# Altium footprint library V_5.PcbLib: 4 footprints
Each footprint in its own frame and in the unit in brackets; x right, y up, seen from the top. Pads: shape width x height; smd on the part's side, far side on the other; paste and mask are expansions set on the pad; w line width, h text height; cw(c..) or ccw(c..) is an arc to the next point about the centre after c.
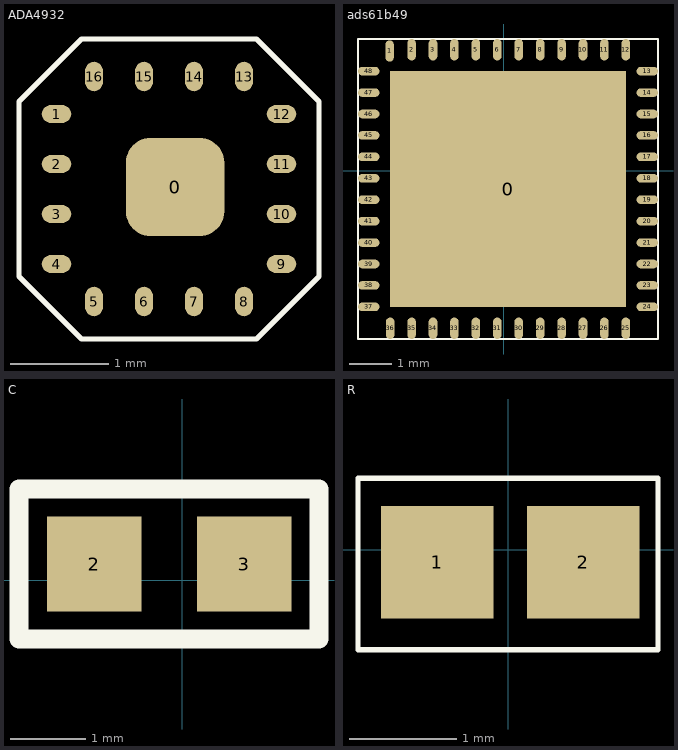
[diagram p0: the footprints below, top view; thin cyan lines are the x and y axes]

## ADA4932 [mm]
pads (17):
  rrect50% 1x1 smd: 0(-620.333,-831.957)
  oval 0.3x0.18 smd: 1(-621.538,-831.215) 2(-621.538,-831.723) 3(-621.538,-832.231) 4(-621.538,-832.739) 9(-619.252,-832.739) 10(-619.252,-832.231) 11(-619.252,-831.723) 12(-619.252,-831.215)
  oval 0.18x0.3 smd: 5(-621.157,-833.12) 6(-620.649,-833.12) 7(-620.141,-833.12) 8(-619.633,-833.12) 13(-619.633,-830.834) 14(-620.141,-830.834) 15(-620.649,-830.834) 16(-621.157,-830.834)
Top Overlay:
  lines w0.05: -621.919,-832.866 -621.919,-831.088 -621.284,-830.453 -619.506,-830.453 -618.871,-831.088 -618.871,-832.866 -619.506,-833.501 -621.284,-833.501 -621.919,-832.866

## ads61b49 [mm]
pads (49):
  rect 5.5x5.5 smd: 0(0.096,-0.427)
  oval 0.2x0.5 smd: 1(-2.667,2.794) 2(-2.154,2.823) 3(-1.654,2.823) 4(-1.154,2.823) 5(-0.654,2.823) 6(-0.154,2.823) 7(0.346,2.823) 8(0.846,2.823) 9(1.346,2.823) 10(1.846,2.823) 11(2.346,2.823) 12(2.846,2.823) 25(2.846,-3.677) 26(2.346,-3.677) 27(1.846,-3.677) 28(1.346,-3.677) 29(0.846,-3.677) 30(0.346,-3.677) 31(-0.154,-3.677) 32(-0.654,-3.677) 33(-1.154,-3.677) 34(-1.654,-3.677) 35(-2.154,-3.677) 36(-2.654,-3.677)
  oval 0.5x0.2 smd: 13(3.346,2.323) 14(3.346,1.823) 15(3.346,1.323) 16(3.346,0.823) 17(3.346,0.323) 18(3.346,-0.177) 19(3.346,-0.677) 20(3.346,-1.177) 21(3.346,-1.677) 22(3.346,-2.177) 23(3.346,-2.677) 24(3.346,-3.177) 37(-3.154,-3.177) 38(-3.154,-2.677) 39(-3.154,-2.177) 40(-3.154,-1.677) 41(-3.154,-1.177) 42(-3.154,-0.677) 43(-3.154,-0.177) 44(-3.154,0.323) 45(-3.154,0.823) 46(-3.154,1.323) 47(-3.154,1.823) 48(-3.154,2.323)
Top Overlay:
  lines w0.05: -3.404,-3.927 -3.404,3.073 3.596,3.073 3.596,-3.927 -3.404,-3.927

## C [mm]
pads (2):
  rect 1.26x1.27 smd: 2(-1.175,0.218) 3(0.825,0.218)
Top Overlay:
  lines w0.254: -2.175,-0.782 -2.175,1.218 1.825,1.218 1.825,-0.782 -2.175,-0.782

## R [mm]
pads (2):
  rect 1.05x1.05 smd: 1(-0.663,-0.119) 2(0.697,-0.119)
Top Overlay:
  lines w0.05: -1.403,-0.934 1.397,-0.934 1.397,0.666 -1.403,0.666 -1.403,-0.934